# Altium footprint library PCB - LEADLESS - QFN - SILICON LABS QFN-24 4x4MM.PCBLIB: 1 footprints
Each footprint in its own frame and in the unit in brackets; x right, y up, seen from the top. Pads: shape width x height; smd on the part's side, far side on the other; paste and mask are expansions set on the pad; w line width, h text height; cw(c..) or ccw(c..) is an arc to the next point about the centre after c.
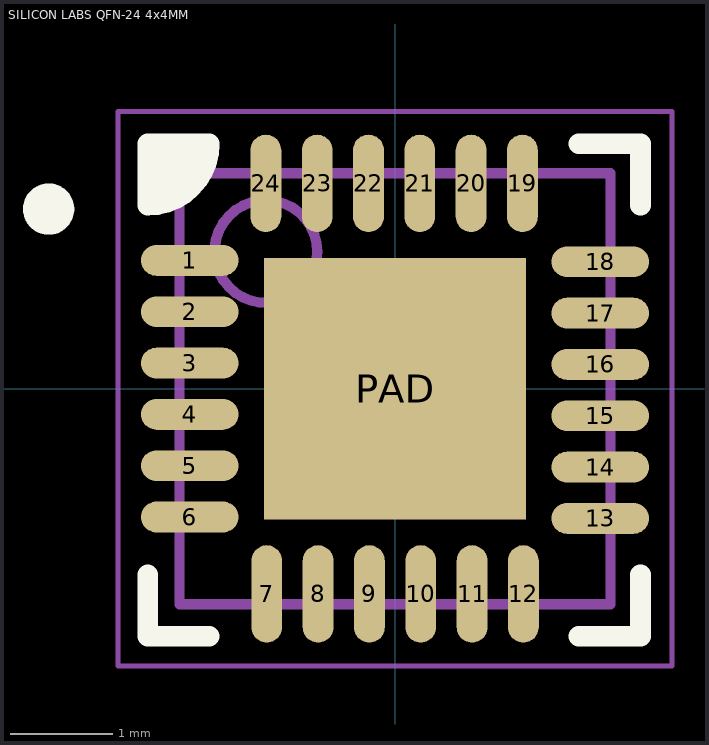
[diagram p0: the footprint, top view; thin cyan lines are the x and y axes]

## SILICON LABS QFN-24 4x4MM [mm] "QFN, 24-Leads, Body 5.00x5.00mm, Pitch 0.50mm, Thermal Pad 2.55x2.55mm, IPC Medium Density"
height 0.8
pads (25):
  oval 0.95x0.3 smd: 1(-2,1.25) 2(-2,0.75) 3(-2,0.25) 4(-2,-0.25) 5(-2,-0.75) 6(-2,-1.25) 13(2,-1.263) 14(2,-0.763) 15(2,-0.263) 16(2,0.237) 17(2,0.737) 18(2,1.237)
  oval 0.3x0.95 smd: 7(-1.25,-2) 8(-0.75,-2) 9(-0.25,-2) 10(0.25,-2) 11(0.75,-2) 12(1.25,-2) 19(1.241,2) 20(0.741,2) 21(0.241,2) 22(-0.259,2) 23(-0.759,2) 24(-1.259,2)
  rect 2.55x2.55 smd: PAD(0,0)
Top Overlay:
  circle w0.25: c-3.375,1.75 r0.125
  region: -2.409,2.387 -1.809,2.387 -1.959,1.937 -2.409,1.787
  lines w0.2: -2.409,-1.813 -2.409,-2.413 -1.809,-2.413 ; 1.791,-2.413 2.391,-2.413 2.391,-1.813 ; 1.791,2.387 2.391,2.387 2.391,1.787 ; -2.409,1.787 ccw(c-2.409,2.387) -1.809,2.387 -2.409,2.387 -2.409,1.787
Top Assembly:
  circle w0.1: c-1.259,1.337 r0.5
  lines w0.1: -2.1,-2.1 2.1,-2.1 2.1,2.1 -2.1,2.1 -2.1,-2.1
Top Component Center:
  lines w0.1: -0.459,0.037 0.541,0.037 ; 0.041,-0.463 0.041,0.537
Top Courtyard:
  lines w0.05: -2.7,-2.7 -2.7,2.7 2.7,2.7 2.7,-2.7 -2.7,-2.7
3D body "LTC QFN-24 4x4 UF.step": height 0.8, standoff 0, extent -2.07,-2.07 2.07,2.07